# EAGLE library part DIP3 (library mb_dip switch)
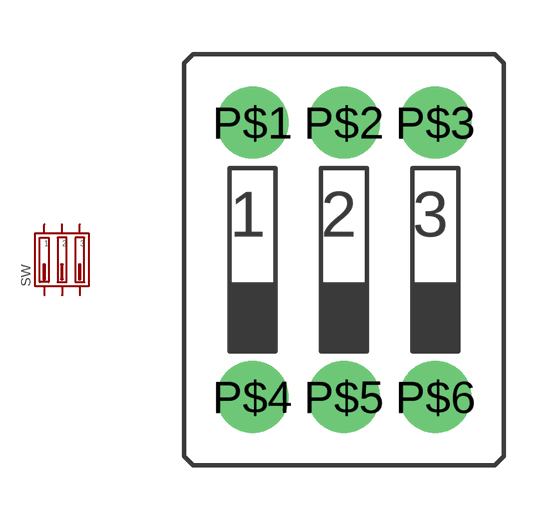
[diagram p0: symbol with the pads of DIP3; footprint DIP3]

Designator prefix SW

## DIP3  [DIP3]
P$1  1
P$2  2
P$3  3
P$4  4
P$5  5
P$6  6

## Footprint DIP3 (pad centres in mm)
drill 0.8 pad 2: P$1 -2.54,3.81; P$2 0,3.81; P$3 2.54,3.81; P$4 -2.54,-3.81; P$5 0,-3.81; P$6 2.54,-3.81